# Altium footprint library TO-247.PcbLib: 1 footprints
Each footprint in its own frame and in the unit in brackets; x right, y up, seen from the top. Pads: shape width x height; smd on the part's side, far side on the other; paste and mask are expansions set on the pad; w line width, h text height; cw(c..) or ccw(c..) is an arc to the next point about the centre after c.
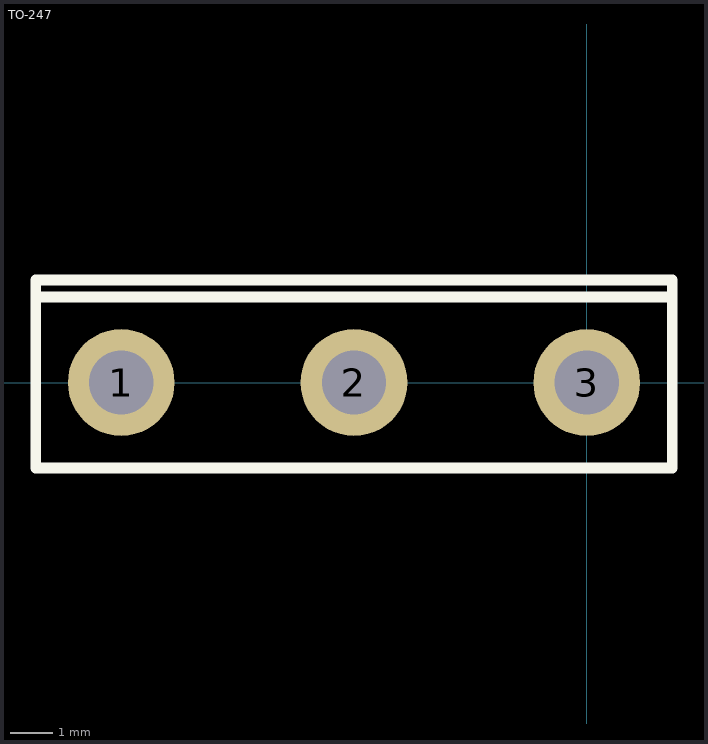
[diagram p0: the footprint, top view; thin cyan lines are the x and y axes]

## TO-247 [mm]
pads (3):
  round 2.5 hole 1.5: 1(-10.9,0) 2(-5.45,0) 3(0,0)
Top Overlay:
  lines w0.254: -12.9,2 2,2 ; -12.9,2 -12.9,2.4 2,2.4 2,2 ; -12.9,2 -12.9,-2 2,-2 2,2